# EAGLE library part 74LCX16245MTD (library Fairchild_By_element14_Batch_1)
16-Bit Bidirectional Transceiver
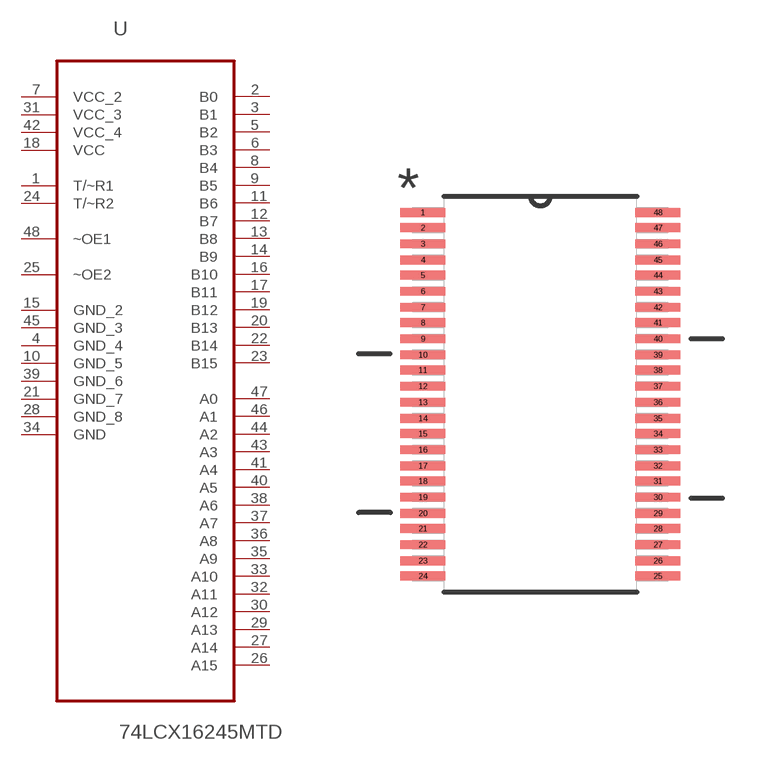
[diagram p85: symbol with the pads of SOP50P810X120-48N; footprint SOP50P810X120-48N]

Designator prefix U

## 74LCX16245MTD (MPN: 74LCX16245MTD; OC_FARNELL: 1467355; OC_NEWARK: 34C8104; PACKAGE: TSSOP-48; SUPPLIER: FAIRCHILD SEMICONDUCTOR)  [SOP50P810X120-48N]
1  T/~R1  in
2  B0  out
3  B1  in
4  GND_4  pas
5  B2  out
6  B3  out
7  VCC_2  pwr
8  B4  out
9  B5  out
10  GND_5  pas
11  B6  out
12  B7  out
13  B8  out
14  B9  out
15  GND_2  pas
16  B10  out
17  B11  out
18  VCC  pwr
19  B12  out
20  B13  out
21  GND_7  pas
22  B14  out
23  B15  out
24  T/~R2  in
25  ~OE2  out
26  A15  out
27  A14  out
28  GND_8  pas
29  A13  out
30  A12  out
31  VCC_3  in
32  A11  out
33  A10  out
34  GND  pas
35  A9  out
36  A8  out
37  A7  out
38  A6  out
39  GND_6  pas
40  A5  out
41  A4  out
42  VCC_4  pwr
43  A3  out
44  A2  out
45  GND_3  pas
46  A1  out
47  A0  out
48  ~OE1  in

## Footprint SOP50P810X120-48N (pad centres in mm)
smd 1.422 x 0.279: 1 -3.708,5.74; 2 -3.708,5.258; 3 -3.708,4.75; 4 -3.708,4.242; 5 -3.708,3.759; 6 -3.708,3.251; 7 -3.708,2.743; 8 -3.708,2.261; 9 -3.708,1.753; 10 -3.708,1.245; 11 -3.708,0.762; 12 -3.708,0.254; 13 -3.708,-0.254; 14 -3.708,-0.762; 15 -3.708,-1.245; 16 -3.708,-1.753; 17 -3.708,-2.261; 18 -3.708,-2.743; 19 -3.708,-3.251; 20 -3.708,-3.759; 21 -3.708,-4.242; 22 -3.708,-4.75; 23 -3.708,-5.258; 24 -3.708,-5.74; 25 3.708,-5.74; 26 3.708,-5.258; 27 3.708,-4.75; 28 3.708,-4.242; 29 3.708,-3.759; 30 3.708,-3.251; 31 3.708,-2.743; 32 3.708,-2.261; 33 3.708,-1.753; 34 3.708,-1.245; 35 3.708,-0.762; 36 3.708,-0.254; 37 3.708,0.254; 38 3.708,0.762; 39 3.708,1.245; 40 3.708,1.753; 41 3.708,2.261; 42 3.708,2.743; 43 3.708,3.251; 44 3.708,3.759; 45 3.708,4.242; 46 3.708,4.75; 47 3.708,5.258; 48 3.708,5.74